# EAGLE library part LMV358ID (library LMV358ID)
Dual Low-Voltage Rail-to-Rail Output Operational Amplifier - see LMV358A for upgraded version Source: Datasheet <http://www.ti.com/lit/ds/symlink/lmv358.pdf>
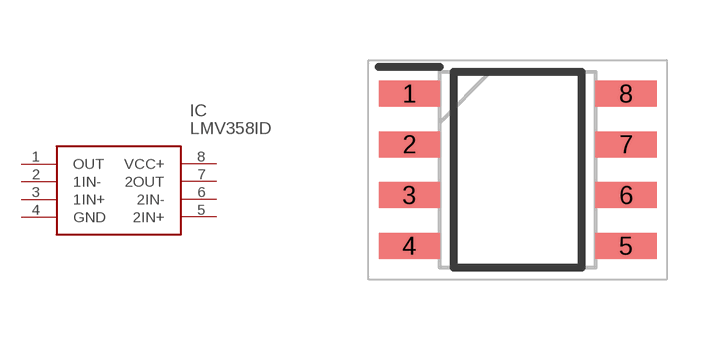
[diagram p0: symbol with the pads of SOIC127P600X175-8N; footprint SOIC127P600X175-8N]

Designator prefix IC

## LMV358ID (Arrow_Part_Number: LMV358ID; Arrow_Price-Stock: https://www.arrow.com/en/products/lmv358id/texas-instruments?region=nac; Description: Dual Low-Voltage Rail-to-Rail Output Operational Amplifier - see LMV358A for upgraded version; Height: 1.75mm; Manufacturer_Name: Texas Instruments; Manufacturer_Part_Number: LMV358ID; Mouser_Part_Number: 595-LMV358ID; Mouser_Price-Stock: https://www.mouser.co.uk/ProductDetail/Texas-Instruments/LMV358ID?qs=paYhMW8qfitK8CZjs2w62w%3D%3D)  [SOIC127P600X175-8N]
1  OUT
2  1IN-
3  1IN+
4  GND
5  2IN+
6  2IN-
7  2OUT
8  VCC+

## Footprint SOIC127P600X175-8N (pad centres in mm)
D
smd 1.528 x 0.65: 1 -2.711,1.905; 2 -2.711,0.635; 3 -2.711,-0.635; 4 -2.711,-1.905; 5 2.711,-1.905; 6 2.711,-0.635; 7 2.711,0.635; 8 2.711,1.905